# Altium schematic symbol library U_74LVC00ABQ.SchLib: 1 symbol
Pins are listed as number, name and electrical type; pins without a type are passive.

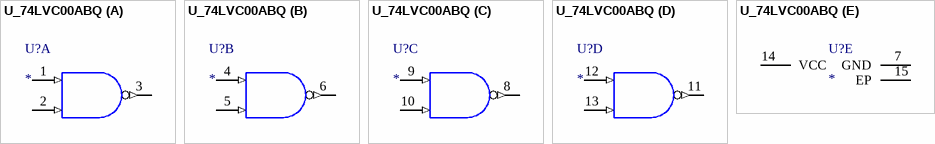
[diagram p0: symbol U_74LVC00ABQ]

## U_74LVC00ABQ
designator U?
part A pins: 1 1A (in) "A input for gate 1", 2 1B (in) "B input for gate 1", 3 1Y (out) "Output for gate 1"
part B pins: 4 2A (in) "A input for gate 2", 5 2B (in) "B input for gate 2", 6 2Y (out) "Output for gate 2"
part C pins: 8 3Y (out) "Output for gate 3", 9 3A (in) "A input for gate 3", 10 3B (in) "B input for gate 3"
part D pins: 11 4Y (out) "Output for gate 4", 12 4A (in) "A input for gate 4", 13 4B (in) "B input for gate 4"
part E pins: 7 GND (power) "Ground", 14 VCC (power) "Power input.", 15 EP "EP Not a Supply Pin. NC or Connect to GND"